# Altium schematic symbol library proyecto_4to_componentes_libreria.SchLib: 1 symbol
Pins are listed as number, name and electrical type; pins without a type are passive.

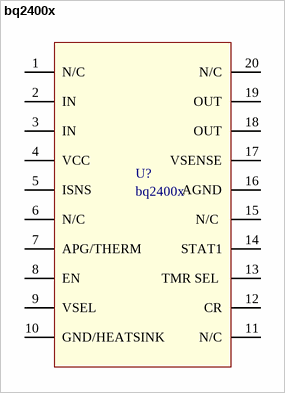
[diagram p0: symbol bq2400x]

## bq2400x
designator U?
Charger Battery Driver
pins: 1 N/C, 2 IN, 3 IN, 4 VCC, 5 ISNS, 6 N/C , 7 APG/THERM , 8 EN, 9 VSEL, 10 GND/HEATSINK, 11 N/C, 12 CR, 13 TMR SEL , 14 STAT1, 15 N/C , 16 AGND, 17 VSENSE, 18 OUT, 19 OUT, 20 N/C